# Altium schematic symbol library ScewTerminal.SchLib: 1 symbol
Pins are listed as number, name and electrical type; pins without a type are passive.

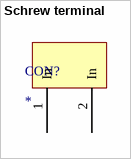
[diagram p0: symbol Schrew terminal]

## Schrew terminal
designator CON?
footprint ScrewTerminal
pins: 1 In, 2 In